# EAGLE library part SFW20R-1STE1LF (library FCI-tkr)
FFC/FPC CONNECTOR, RECEPTACLE 20POS 1ROW
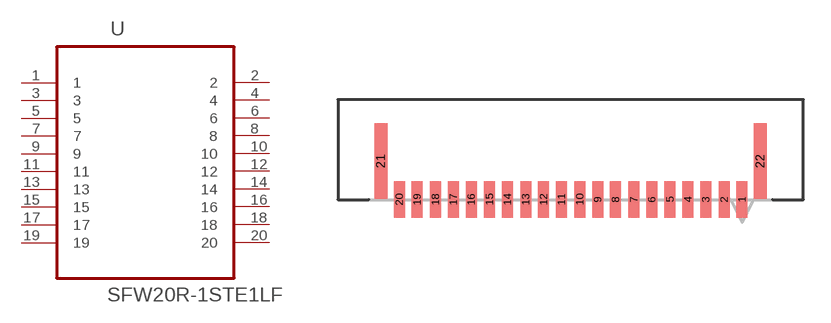
[diagram p70: symbol with the pads of FCI_SFW20R-1STE1LF; footprint FCI_SFW20R-1STE1LF]

Designator prefix U

## SFW20R-1STE1LF (MPN: SFW20R-1STE1LF; OC_FARNELL: 1632211; OC_NEWARK: 62K5613; PACKAGE: CONNECTOR-20POS; SUPPLIER: FCI)  [FCI_SFW20R-1STE1LF]
1  1  pas
2  2  pas
3  3  pas
4  4  pas
5  5  pas
6  6  pas
7  7  pas
8  8  pas
9  9  pas
10  10  pas
11  11  pas
12  12  pas
13  13  pas
14  14  pas
15  15  pas
16  16  pas
17  17  pas
18  18  pas
19  19  pas
20  20  pas

## Footprint FCI_SFW20R-1STE1LF (pad centres in mm)
smd 0.61 x 2.007: 1 9.5,2.743; 2 8.509,2.743; 3 7.493,2.743; 4 6.502,2.743; 5 5.512,2.743; 6 4.496,2.743; 7 3.505,2.743; 8 2.489,2.743; 9 1.499,2.743; 10 0.508,2.743; 11 -0.508,2.743; 12 -1.499,2.743; 13 -2.489,2.743; 14 -3.505,2.743; 15 -4.496,2.743; 16 -5.512,2.743; 17 -6.502,2.743; 18 -7.493,2.743; 19 -8.509,2.743; 20 -9.5,2.743
smd 0.711 x 4.191: 21 -10.516,4.877; 22 10.516,4.877